# Altium footprint library TO127P1500X440-8N-1-V.PcbLib: 1 footprints
Each footprint in its own frame and in the unit in brackets; x right, y up, seen from the top. Pads: shape width x height; smd on the part's side, far side on the other; paste and mask are expansions set on the pad; w line width, h text height; cw(c..) or ccw(c..) is an arc to the next point about the centre after c.
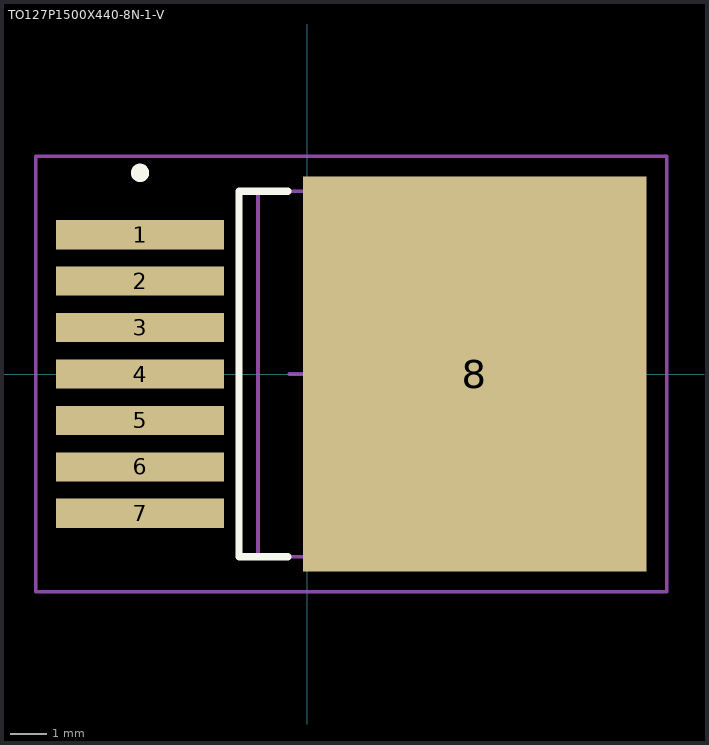
[diagram p0: the footprint, top view; thin cyan lines are the x and y axes]

## TO127P1500X440-8N-1-V [mm] "TO,1.27mm pitch;7 pin,15.00mm L X 9.25mm W X 4.40mm H body"
height 4.4
pads (8):
  rect 4.6x0.8 smd paste+0 mask+0: 1(-4.575,3.81) 2(-4.575,2.54) 3(-4.575,1.27) 4(-4.575,0) 5(-4.575,-1.27) 6(-4.575,-2.54) 7(-4.575,-3.81)
  rect 9.4x10.8 smd paste+0 mask+0: 8(4.575,0)
Top Overlay:
  circle w0.25: c-4.575,5.5 r0.125
  lines w0.2: -0.53,-5 -1.87,-5 -1.87,5 -0.53,5
M3 (ASY_Text_Top):
  text ".DESIGNATOR" at 0,0 h1.2
M13 (CMP_Body_OTL_Top):
  lines w0.1: -1.35,-5 7.9,-5 7.9,5 -1.35,5 -1.35,-5
M15 (CMP_Courtyard_Top):
  lines w0.1: -0.5,0 0.5,0 ; 0,-0.5 0,0.5 ; -7.425,-5.95 9.825,-5.95 9.825,5.95 -7.425,5.95 -7.425,-5.95
3D body: height 4.51, standoff 0, extent -6.4,-5 8.55,5